# Altium integrated library PDV-P8103.IntLib: 1 symbol
Pins are listed as number, name and electrical type; pins without a type are passive.

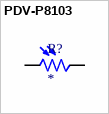
[diagram p0: symbol PDV-P8103]

## PDV-P8103
designator R?
CdS Cells 520nm 16 ~ 33kOhms @ 10 lux; MF: Advanced Photonix; MP: PDV-P8103; SnapEDA_Link: https://www.snapeda.com/parts/PDV-P8103/Advanced+Photonix/view-part/?ref=snap; Package: Radial Advanced Photonix; Value: *; Check_prices: https://www.snapeda.com/parts/PDV-P8103/Advanced+Photonix/view-part/?ref=eda
footprint PHODET_PDV-P8103
pins: 1, 2